# Altium schematic symbol library SCH - POWER - LINEAR VREG - LD1117.SCHLIB: 1 symbol
Pins are listed as number, name and electrical type; pins without a type are passive.

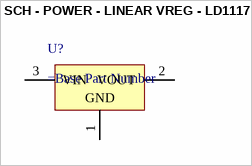
[diagram p0: symbol SCH - POWER - LINEAR VREG - LD1117]

## SCH - POWER - LINEAR VREG - LD1117
designator U?
pins: 1 GND (power), 2 VOUT (power), 3 VIN (power)